# EAGLE library part MPT15 (library pluggable_terminal_blocks)
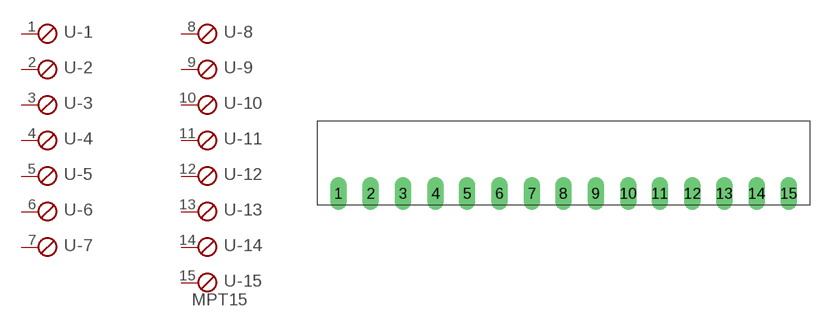
[diagram p8: symbol with the pads of 15POL35; footprint 15POL35]

Designator prefix -; gates -1=SKB -2=SKB -3=SKB -4=SKB -5=SKB -6=SKB -7=SKB -8=SKB -9=SKB -10=SKB -11=SKB -12=SKB -13=SKB -14=SKB -15=SKBV

## MPT15  [15POL35]
1  -1:1  pas
2  -2:1  pas
3  -3:1  pas
4  -4:1  pas
5  -5:1  pas
6  -6:1  pas
7  -7:1  pas
8  -8:1  pas
9  -9:1  pas
10  -10:1  pas
11  -11:1  pas
12  -12:1  pas
13  -13:1  pas
14  -14:1  pas
15  -15:1  pas

## Footprint 15POL35 (pad centres in mm)
drill 1.2 long: 1 -24.52,0; 2 -21.03,0; 3 -17.49,0; 4 -13.95,0; 5 -10.51,0; 6 -7.02,0; 7 -3.48,0; 8 -0.04,0; 9 3.5,0; 10 7.04,0; 11 10.48,0; 12 14.02,0; 13 17.52,0; 14 21.02,0; 15 24.52,0